# EAGLE library part 10118193-0001LF (library circuit_tree)
IC
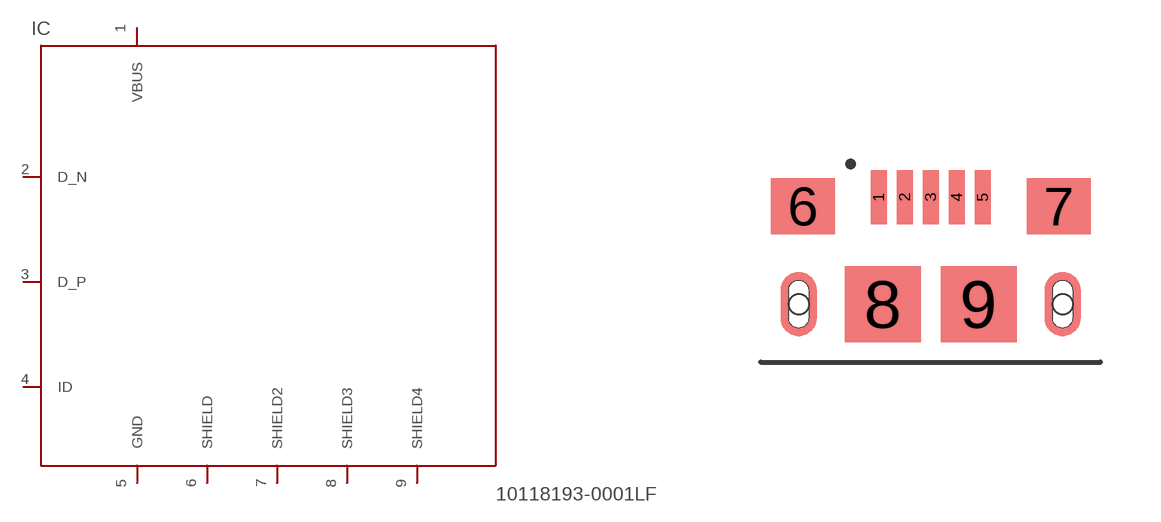
[diagram p1: symbol with the pads of FCI_10118193-0001LF; footprint FCI_10118193-0001LF]

Designator prefix IC

## 10118193-0001LF  [FCI_10118193-0001LF]
1  VBUS  pas
2  D_N  pas
3  D_P  pas
4  ID  pas
5  GND  pas
6  SHIELD  pas
7  SHIELD2  pas
8  SHIELD3  pas
9  SHIELD4  pas

## Footprint FCI_10118193-0001LF (pad centres in mm)
smd 0.4 x 1.35: 1 -1.3,2.675; 2 -0.65,2.675; 3 0,2.675; 4 0.65,2.675; 5 1.3,2.675
smd 1.6 x 1.4: 6 -3.2,2.45; 7 3.2,2.45
smd 1.9 x 1.9: 8 -1.2,0; 9 1.2,0
hole 0.5 at -3.3,0
hole 0.5 at 3.3,0